# Altium schematic symbol library connector.SchLib: 40 symbols
Pins are listed as number, name and electrical type; pins without a type are passive.

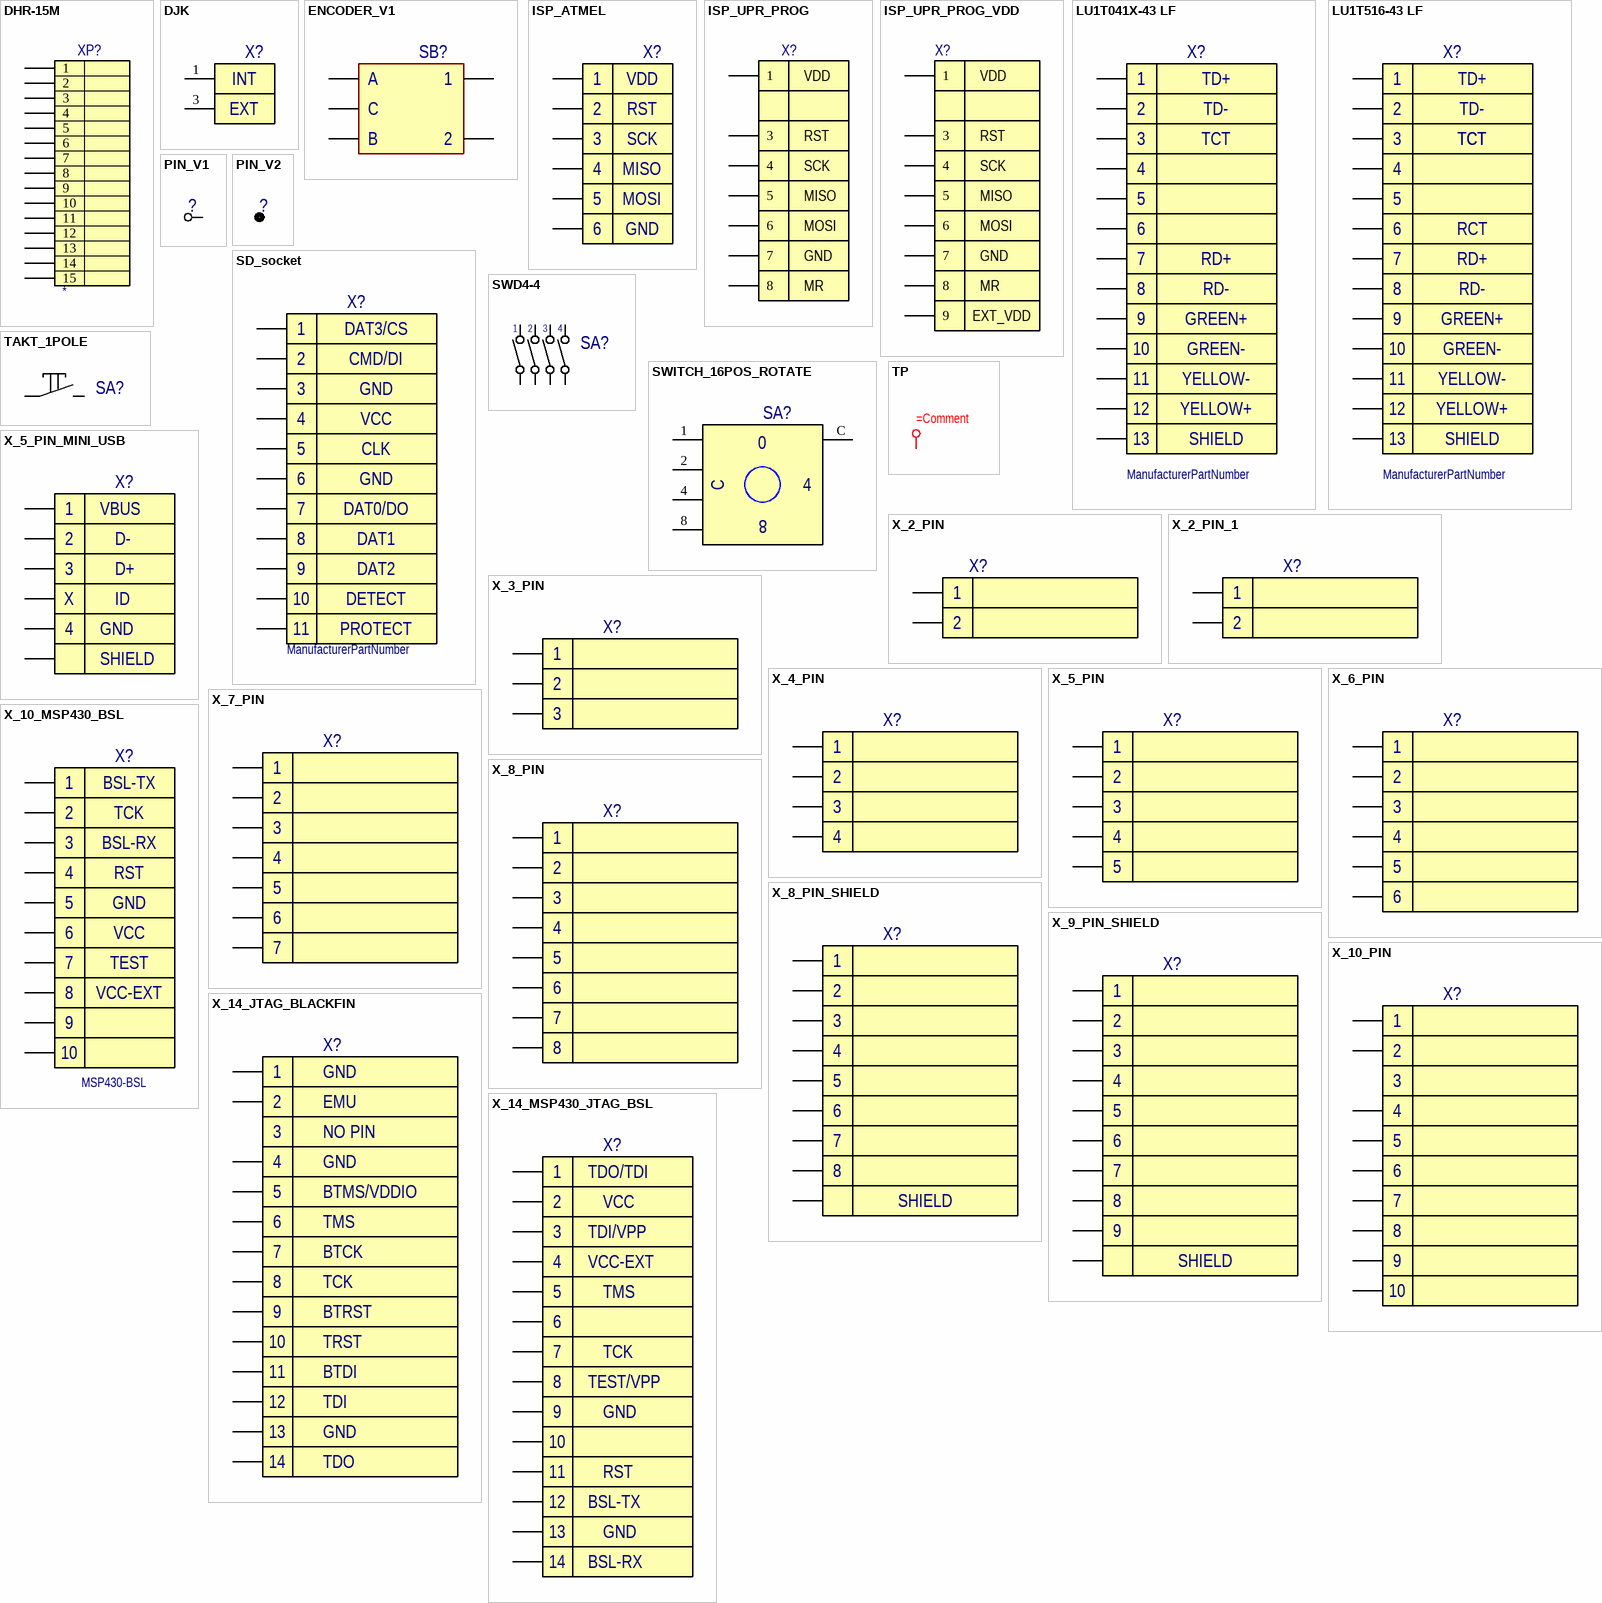
[diagram p0: symbols DHR-15M to X_14_MSP430_JTAG_BSL]

## DHR-15M
designator XP?
ValueBOM: DHR-15M; MarkPCB: *; ValueSCH: *
pins: 1, 2, 3, 4, 5, 6, 7, 8, 9, 10, 11, 12, 13, 14, 15, 16 hidden to GND, 17 hidden to GND
2 alternate drawings of the same symbol

## DJK
designator X?
ManufacturerPartNumber: ManufacturerPartNumber
pins: 1, 2 hidden, 3
1 alternate drawing of the same symbol
text: INT; EXT

## ENCODER_V1
designator SB?
ManufacturerPartNumber: ManufacturerPartNumber
pins: 1, 2, A, B, C
1 alternate drawing of the same symbol

## ISP_ATMEL
designator X?
ManufacturerPartNumber: ManufacturerPartNumber
pins: 1, 2, 3, 4, 5, 6
text: VDD; RST; SCK; MISO; MOSI; GND

## ISP_UPR_PROG
designator X?, comment ISP_UPR  (value not drawn)  (no BOM)
pins: 1, 3, 4, 5, 6, 7, 8
text: VDD; RST; SCK; MISO; MOSI; GND; MR

## ISP_UPR_PROG_VDD
designator X?, comment ISP_UPR  (value not drawn)  (no BOM)
pins: 1, 3, 4, 5, 6, 7, 8, 9
text: VDD; RST; SCK; MISO; MOSI; GND; MR; EXT_VDD

## LU1T041X-43 LF
designator X?
ManufacturerPartNumber: ManufacturerPartNumber
pins: P1 1, P2 2, P3 3, P4 4, P5 5, P6 6, P7 7, P8 8, P9+ 9, P10- 10, P11- 11, P12+ 12, SHIELD
text: TD+; TD-; TCT; RD+; RD-; GREEN+; GREEN-; YELLOW-; YELLOW+; 13

## LU1T516-43 LF
designator X?
ManufacturerPartNumber: ManufacturerPartNumber
pins: P1 1, P2 2, P3 3, P4 4, P5 5, P6 6, P7 7, P8 8, P9+ 9, P10- 10, P11- 11, P12+ 12, SHIELD
text: TD+; TD-; TCT; RCT; RD+; RD-; GREEN+; GREEN-; YELLOW-; YELLOW+; 13

## PIN_V1
designator ?  (no BOM)
ManufacturerPartNumber: ManufacturerPartNumber
pins: 1

## PIN_V2
designator ?  (no BOM)
ManufacturerPartNumber: ManufacturerPartNumber
pins: 1

## SD_socket
designator X?
ManufacturerPartNumber: ManufacturerPartNumber
pins: 1, 2, 3, 4, 5, 6, 7, 8, 9, CARD_DETECT 10, WRITE_PROTECT 11
text: DAT3/CS; CMD/DI; GND; VCC; CLK; DAT0/DO; DAT1; DAT2; DETECT; PROTECT

## SWD4-4
designator SA?
ManufacturerPartNumber: ManufacturerPartNumber
pins: 1, 2, 3, 4, 5, 6, 7, 8

## SWITCH_16POS_ROTATE
designator SA?
ManufacturerPartNumber: ManufacturerPartNumber
pins: 1 "RED", 2 "WHITE", 4 "GREEN", 8, C
text: 0

## TAKT_1POLE
designator SA?
ManufacturerPartNumber: ManufacturerPartNumber
pins: 1, 2

## TP
designator TP?  (no BOM)
ManufacturerPartNumber: ManufacturerPartNumber
pins: 1

## X_2_PIN
designator X?
ManufacturerPartNumber: ManufacturerPartNumber
pins: 1, 2
2 alternate drawings of the same symbol

## X_2_PIN_1
designator X?
ManufacturerPartNumber: ManufacturerPartNumber
pins: 1, 2
1 alternate drawing of the same symbol

## X_3_PIN
designator X?
ManufacturerPartNumber: ManufacturerPartNumber
pins: 1, 2, 3
1 alternate drawing of the same symbol

## X_4_PIN
designator X?
ManufacturerPartNumber: ManufacturerPartNumber
pins: 1, 2, 3, 4
1 alternate drawing of the same symbol

## X_5_PIN
designator X?
ManufacturerPartNumber: ManufacturerPartNumber
pins: 1, 2, 3, 4, 5
1 alternate drawing of the same symbol

## X_5_PIN_MINI_USB
designator X?
ManufacturerPartNumber: ManufacturerPartNumber
pins: 1 "RED", 2 "WHITE", 3 "GREEN", 4 "BLACK", SHIELD, X
text: VBUS; D-; D+; ID; GND

## X_6_PIN
designator X?
ManufacturerPartNumber: ManufacturerPartNumber
pins: 1, 2, 3, 4, 5, 6
1 alternate drawing of the same symbol

## X_7_PIN
designator X?
ManufacturerPartNumber: ManufacturerPartNumber
pins: 1, 2, 3, 4, 5, 6, 7
1 alternate drawing of the same symbol

## X_8_PIN
designator X?
ManufacturerPartNumber: ManufacturerPartNumber
pins: 1, 2, 3, 4, 5, 6, 7, 8

## X_8_PIN_SHIELD
designator X?
ManufacturerPartNumber: ManufacturerPartNumber
pins: 1, 2, 3, 4, 5, 6, 7, 8, SHIELD

## X_9_PIN_SHIELD
designator X?
ManufacturerPartNumber: ManufacturerPartNumber
pins: 1, 2, 3, 4, 5, 6, 7, 8, 9, SHIELD

## X_10_MSP430_BSL
designator X?
ManufacturerPartNumber: ManufacturerPartNumber
pins: 1, 2, 3, 4, 5, 6, 7, 8, 9, 10
text: BSL-TX; TCK; BSL-RX; RST; GND; VCC; TEST; VCC-EXT; MSP430-BSL

## X_10_PIN
designator X?
ManufacturerPartNumber: ManufacturerPartNumber
pins: 1, 2, 4, 5, 6, 7, 8, 9, 10
text: 3

## X_14_JTAG_BLACKFIN
designator X?
ManufacturerPartNumber: ManufacturerPartNumber
pins: 1, 2, 4, 5, 6, 7, 8, 9, 10, 11, 12, 13 SHIELD, 14
text: GND; EMU; 3; NO PIN; BTMS/VDDIO; TMS; BTCK; TCK; BTRST; TRST; BTDI; TDI; TDO

## X_14_MSP430_JTAG_BSL
designator X?
ManufacturerPartNumber: ManufacturerPartNumber
pins: 1, 2, 3, 4, 5, 6, 7, 8, 9, 10, 11, 12, 13 SHIELD, 14
text: TDO/TDI; VCC; TDI/VPP; VCC-EXT; TMS; TCK; TEST/VPP; GND; RST; BSL-TX; BSL-RX

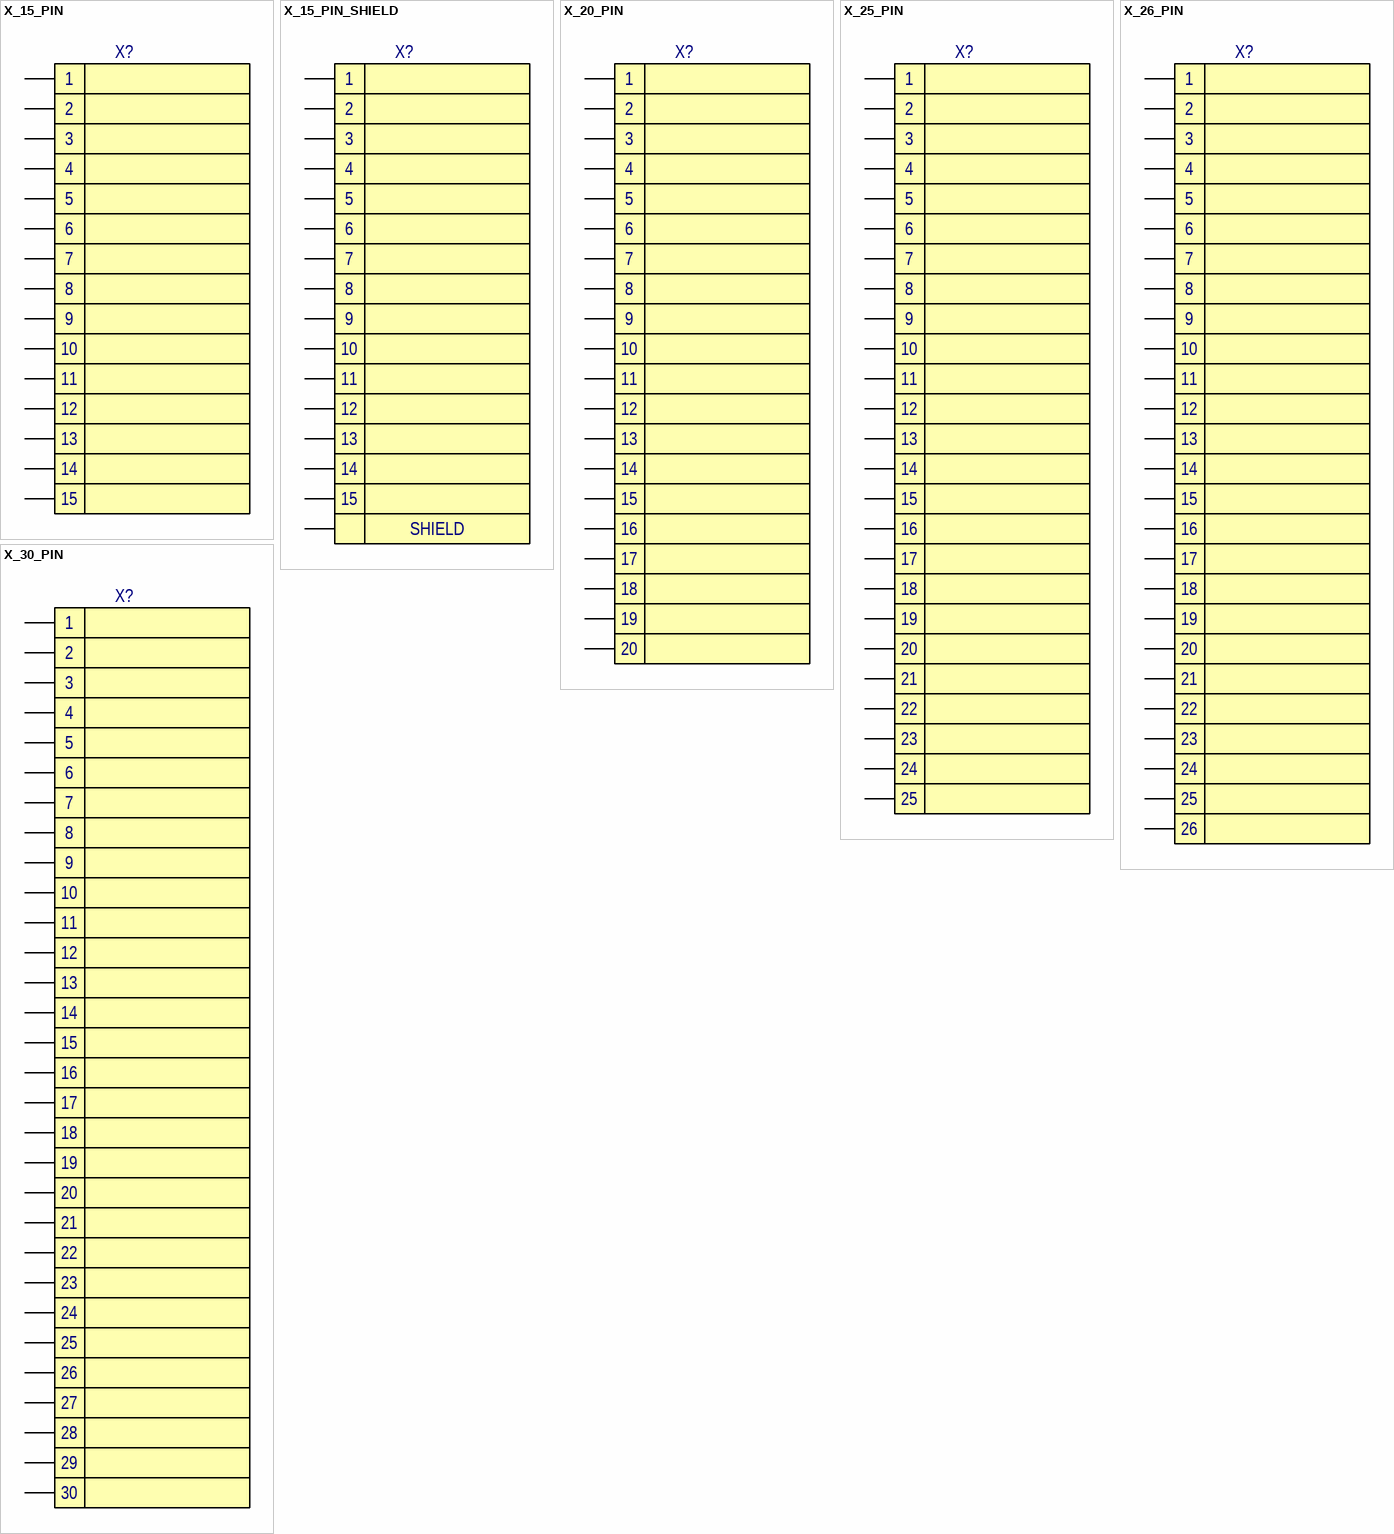
[diagram p1: symbols X_15_PIN to X_30_PIN]

## X_15_PIN
designator X?
ManufacturerPartNumber: ManufacturerPartNumber
pins: 1, 2, 3, 4, 5, 6, 7, 8, 9, 10, 11, 12, 13, 14, 15

## X_15_PIN_SHIELD
designator X?
ManufacturerPartNumber: ManufacturerPartNumber
pins: 1, 2, 3, 4, 5, 6, 7, 8, 9, 10, 11, 12, 13, 14, 15, SHIELD

## X_20_PIN
designator X?
ManufacturerPartNumber: ManufacturerPartNumber
pins: 1, 2, 3, 4, 5, 6, 7, 8, 9, 10, 11, 12, 13 SHIELD, 14, 15, 16, 17, 18, 19, 20

## X_25_PIN
designator X?
ManufacturerPartNumber: ManufacturerPartNumber
pins: 1, 2, 3, 4, 5, 6, 7, 8, 9, 10, 11, 12, 13 SHIELD, 14, 15, 16, 17, 18, 19, 20, 21, 22, 23, 24, 25

## X_26_PIN
designator X?
ManufacturerPartNumber: ManufacturerPartNumber
pins: 1, 2, 3, 4, 5, 6, 7, 8, 9, 10, 11, 12, 13 SHIELD, 14, 15, 16, 17, 18, 19, 20, 21, 22, 23, 24, 25, 26

## X_30_PIN
designator X?
ManufacturerPartNumber: ManufacturerPartNumber
pins: 1, 2, 3, 4, 5, 6, 7, 8, 9, 10, 11, 12, 13 SHIELD, 14, 15, 16, 17, 18, 19, 20, 21, 22, 23, 24, 25, 26, 27, 28, 29, 30

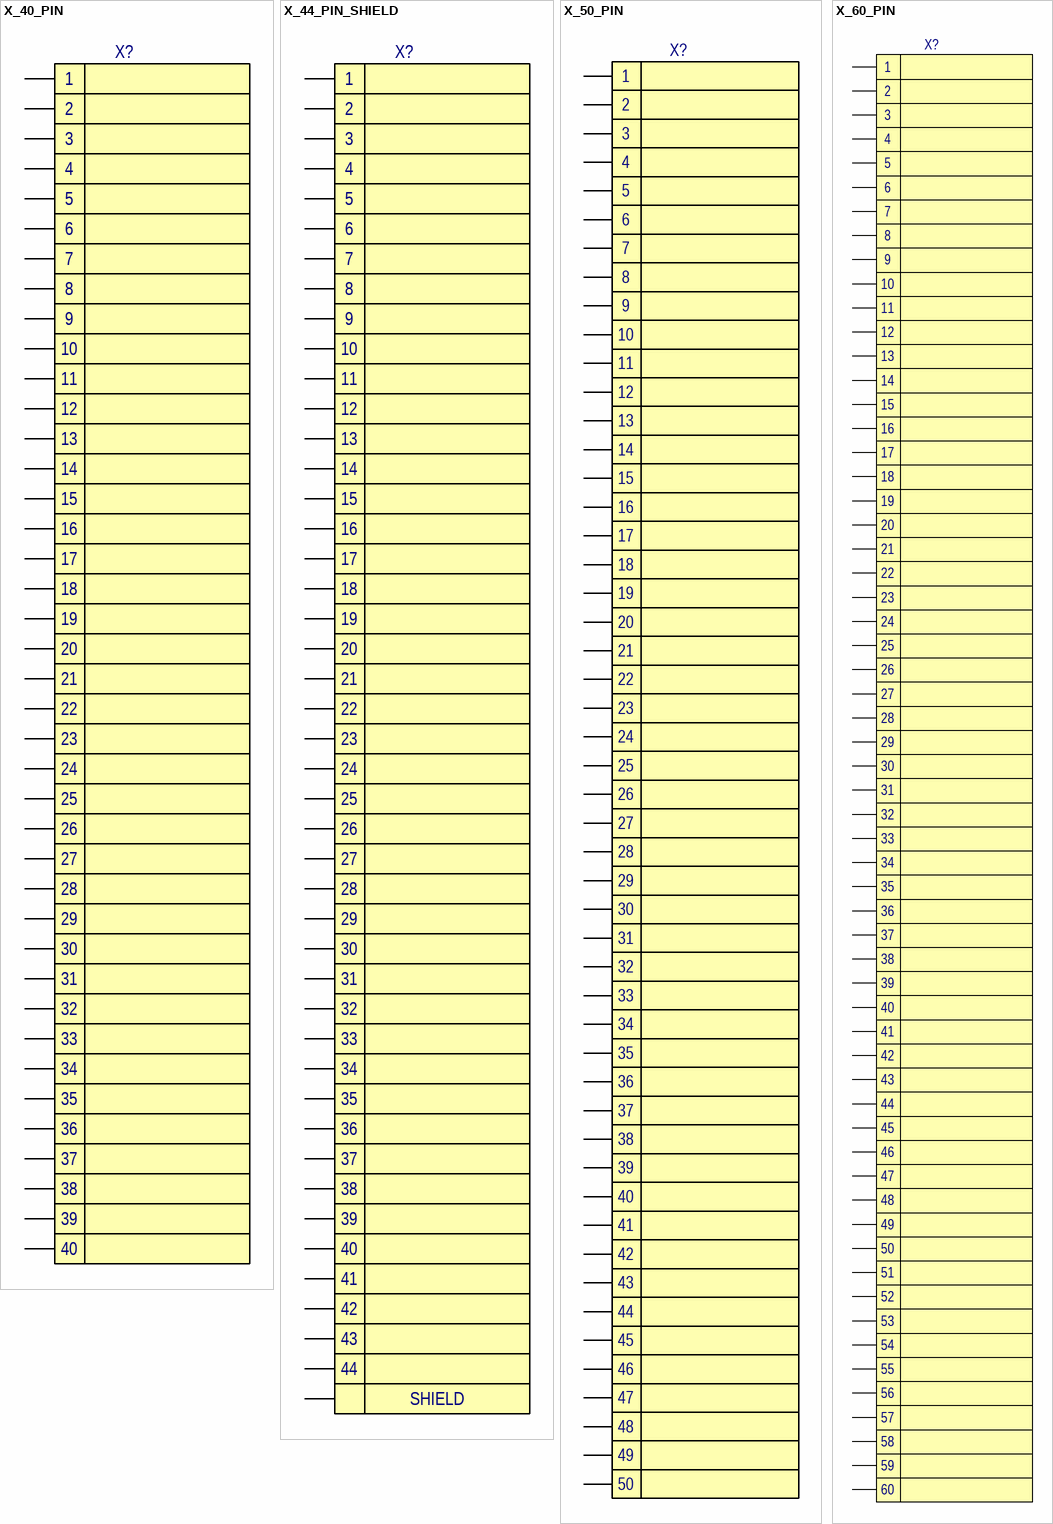
[diagram p2: symbols X_40_PIN to X_60_PIN]

## X_40_PIN
designator X?
ManufacturerPartNumber: ManufacturerPartNumber
pins: 1, 2, 3, 4, 5, 6, 7, 8, 9, 10, 11, 12, 13 SHIELD, 14, 15, 16, 17, 18, 19, 20, 21, 22, 23, 24, 25, 26, 27, 28, 29, 30, 31, 32, 33, 34, 35, 36, 37, 38, 39, 40

## X_44_PIN_SHIELD
designator X?
ManufacturerPartNumber: ManufacturerPartNumber
pins: 1, 2, 3, 4, 5, 6, 7, 8, 9, 10, 11, 12, 13 SHIELD, 14, 15, 16, 17, 18, 19, 20, 21, 22, 23, 24, 25, 26, 27, 28, 29, 30, 31, 32, 33, 34, 35, 36, 37, 38, 39, 40, 41, 42, 43, 44, SHIELD

## X_50_PIN
designator X?
ManufacturerPartNumber: ManufacturerPartNumber
pins: 1, 2, 3, 4, 5, 6, 7, 8, 9, 10, 11, 12, 13 SHIELD, 14, 15, 16, 17, 18, 19, 20, 21, 22, 23, 24, 25, 26, 27, 28, 29, 30, 31, 32, 33, 34, 35, 36, 37, 38, 39, 40, 41, 42, 43, 44, 45, 46, 47, 48, 49, 50

## X_60_PIN
designator X?
ManufacturerPartNumber: ManufacturerPartNumber
pins: 1, 2, 3, 4, 5, 6, 7, 8, 9, 10, 11, 12, 13 SHIELD, 14, 15, 16, 17, 18, 19, 20, 21, 22, 23, 24, 25, 26, 27, 28, 29, 30, 31, 32, 33, 34, 35, 36, 37, 38, 39, 40, 41, 42, 43, 44, 45, 46, 47, 48, 49, 50, 51, 52, 53, 54, 55, 56, 57, 58, 59, 60